# Altium schematic symbol library BCX19.Schlib: 1 symbol
Pins are listed as number, name and electrical type; pins without a type are passive.

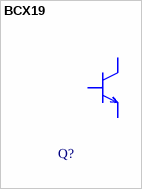
[diagram p0: symbol BCX19]

## BCX19
designator Q?
50V 1A NPN
pins: 1 B, 2 E, 3 C